# EAGLE library part MAX5556ESA+ (library schematic)
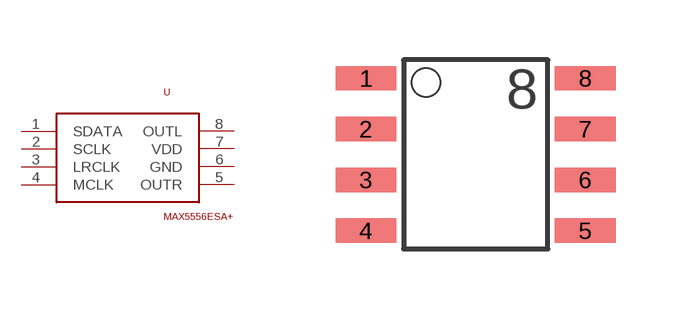
[diagram p14: symbol with the pads of SO-8; footprint SO-8]

Designator prefix -

## MAX5556ESA+  [SO-8]
1  SDATA
2  SCLK
3  LRCLK
4  MCLK
5  OUTR
6  GND
7  VDD
8  OUTL

## Footprint SO-8 (pad centres in mm)
SO 8 small outline
smd 1.524 x 0.61: 1 -2.743,1.27; 2 -2.743,0; 3 -2.743,-1.27; 4 -2.743,-2.54; 5 2.743,-2.54; 6 2.743,-1.27; 7 2.743,0; 8 2.743,1.27